# EAGLE library part 102010428 (library XiaoRP2040)
Check availability <https://pricing.snapeda.com/parts/102010428/Seeed%20Technology%20Co.%2C%20Ltd/view-part?ref=eda>
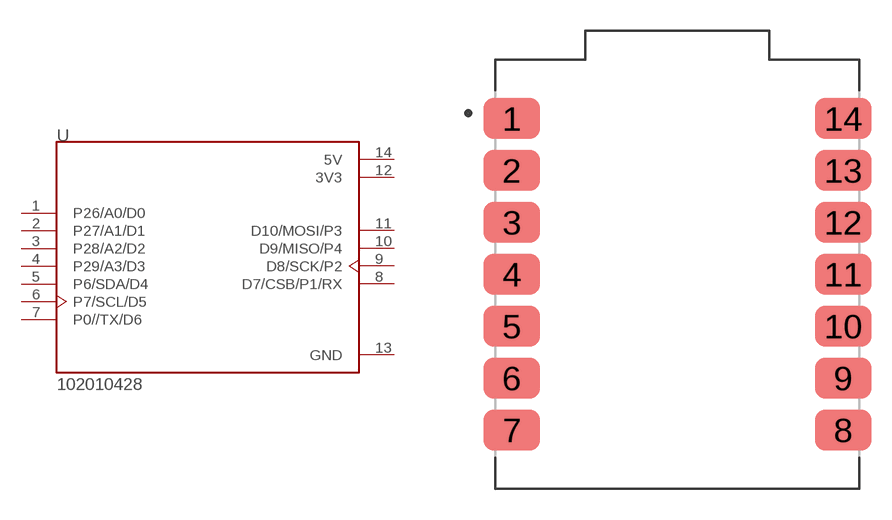
[diagram p0: symbol with the pads of MODULE_102010428; footprint MODULE_102010428]

Designator prefix U

## 102010428' (Availability: In Stock; Check_prices: https://www.snapeda.com/parts/102010428/Seeed+Studio/view-part/?ref=eda; Description: RP2040 XIAO RP2040 series ARM® Cortex®-M0+ MCU 32-Bit Embedded Evaluation Board; MF: Seeed Technology Co., Ltd; MP: 102010428; Package: None; Price: None; SnapEDA_Link: https://www.snapeda.com/parts/102010428/Seeed+Studio/view-part/?ref=snap)  [MODULE_102010428]
1  P26/A0/D0
2  P27/A1/D1
3  P28/A2/D2
4  P29/A3/D3
5  P6/SDA/D4
6  P7/SCL/D5
7  P0//TX/D6
8  D7/CSB/P1/RX
9  D8/SCK/P2
10  D9/MISO/P4
11  D10/MOSI/P3
12  3V3  pwr
13  GND  pwr
14  5V  pwr

## Footprint MODULE_102010428 (pad centres in mm)
smd 2.75 x 2: 1 -8.1,7.62; 2 -8.1,5.08; 3 -8.1,2.54; 4 -8.1,0; 5 -8.1,-2.54; 6 -8.1,-5.08; 7 -8.1,-7.62; 8 8.1,-7.62; 9 8.1,-5.08; 10 8.1,-2.54; 11 8.1,0; 12 8.1,2.54; 13 8.1,5.08; 14 8.1,7.62